# Altium footprint library ModuleBluetooth.PcbLib: 2 footprints
Each footprint in its own frame and in the unit in brackets; x right, y up, seen from the top. Pads: shape width x height; smd on the part's side, far side on the other; paste and mask are expansions set on the pad; w line width, h text height; cw(c..) or ccw(c..) is an arc to the next point about the centre after c.
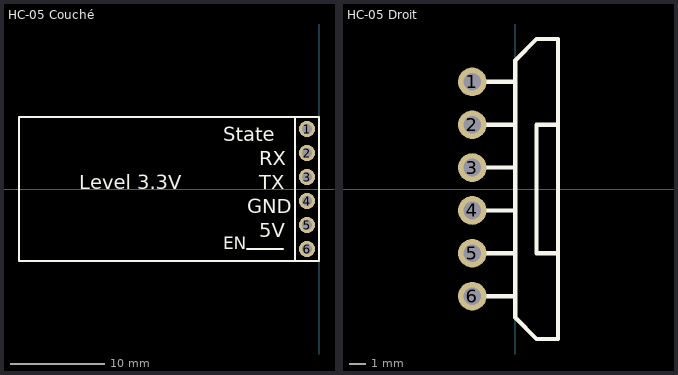
[diagram p0: the footprints below, top view; thin cyan lines are the x and y axes]

## HC-05 Couché [mm]
pads (6):
  round 1.7 hole 1.05: 1(-1.27,6.35) 2(-1.27,3.81) 3(-1.27,1.27) 4(-1.27,-1.27) 5(-1.27,-3.81) 6(-1.27,-6.35)
Top Overlay:
  lines w0.254: -7.62,-6.35 -3.81,-6.35 ; 0,-7.62 -31.75,-7.62 -31.75,7.62 0,7.62 ; 0,-7.62 -2.54,-7.62 -2.54,7.62 0,7.62 ; 0,-7.62 0,7.62
  text "EN" at -10.16,-6.35 h1.3
  text "5V" at -6.35,-5.08 h1.52
  text "GND" at -7.62,-2.54 h1.52
  text "TX" at -6.35,0 h1.52
  text "Level 3.3V" at -25.4,0 h1.52
  text "RX" at -6.35,2.54 h1.52
  text "State" at -10.16,5.08 h1.52

## HC-05 Droit [mm]
pads (6):
  round 1.7 hole 1.05: 1(-2.54,6.35) 2(-2.54,3.81) 3(-2.54,1.27) 4(-2.54,-1.27) 5(-2.54,-3.81) 6(-2.54,-6.35)
Top Overlay:
  lines w0.254: -2.54,-6.35 0,-6.35 ; -2.54,-3.81 0,-3.81 ; -2.54,-1.27 0,-1.27 ; -2.54,1.27 0,1.27 ; -2.54,3.81 0,3.81 ; -2.54,6.35 0,6.35 ; 2.54,-3.81 1.27,-3.81 1.27,-2.54 1.27,3.81 2.54,3.81 ; 0,-6.35 0,7.62 1.27,8.89 2.54,8.89 2.54,-8.89 1.27,-8.89 0,-7.62 0,-6.35